# EAGLE library part RIA182-09 (library con-ria182)
Gewinkelter Wannenstecker 9-polig Rastermaß: 3,5mm Lötstift / Steckerstift: 1x1mm Bohrung: 1,5mm Bemessungsstrom: 5A Nennquerschnitt Stecker: 1,5qmm eindrähtig / 1qmm feinstdrähtig
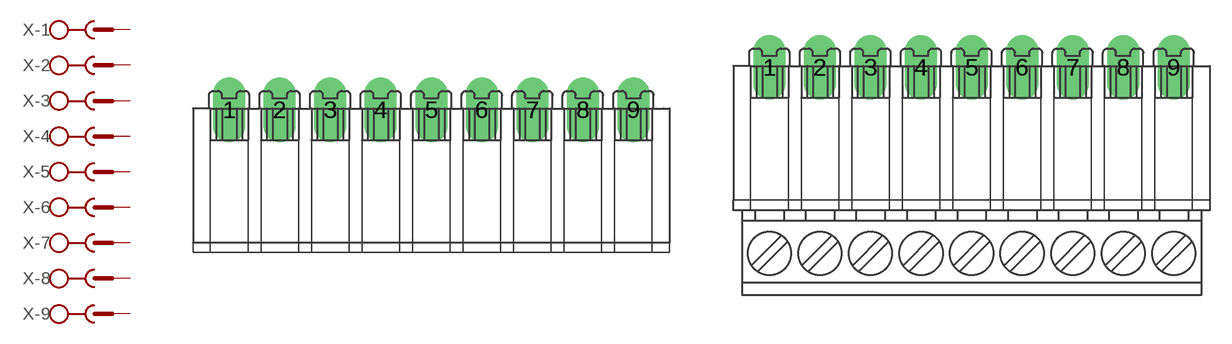
[diagram p3: symbol with the pads of RIA182-09; footprints RIA182-09, RIA182-169-09]

Designator prefix X; gates -1=SK -2=SK -3=SK -4=SK -5=SK -6=SK -7=SK -8=SK -9=SK

## RIA182-09  [RIA182-09]
1  -1:SK  pas
2  -2:SK  pas
3  -3:SK  pas
4  -4:SK  pas
5  -5:SK  pas
6  -6:SK  pas
7  -7:SK  pas
8  -8:SK  pas
9  -9:SK  pas

## RIA182-09-169  [RIA182-169-09]
Pads as for RIA182-09

## Footprint RIA182-09 (pad centres in mm)
drill 1.5 long: 1 -14,0; 2 -10.5,0; 3 -7,0; 4 -3.5,0; 5 0,0; 6 3.5,0; 7 7,0; 8 10.5,0; 9 14,0

## Footprint RIA182-169-09 (pad centres in mm)
mit Stecker RIA 169
drill 1.5 long: 1 -14,0; 2 -10.5,0; 3 -7,0; 4 -3.5,0; 5 0,0; 6 3.5,0; 7 7,0; 8 10.5,0; 9 14,0